# EAGLE library part ESP8285 (library SamacSys_Parts)
Wi-Fi SoC, qfn-32 Source: Datasheet <https://kr.mouser.com/datasheet/2/891/0a-esp8285_datasheet_en-1223891.pdf>
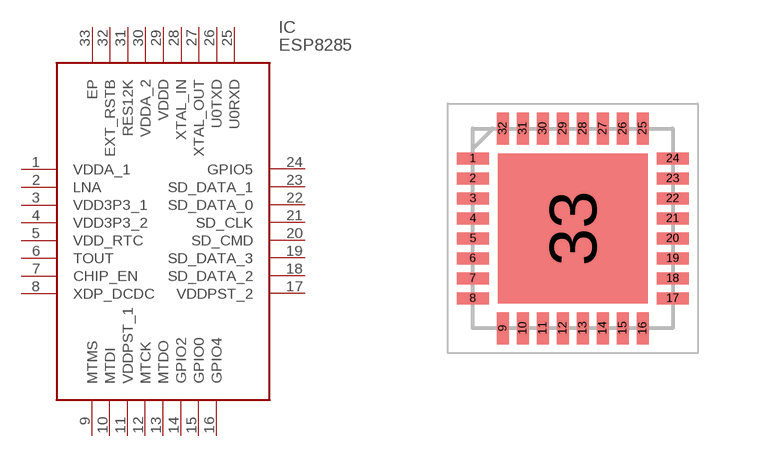
[diagram p2: symbol with the pads of QFN50P500X500X90-33N; footprint QFN50P500X500X90-33N]

Designator prefix IC

## ESP8285 (DESCRIPTION: Wi-Fi SoC, qfn-32; HEIGHT: 0.9mm; MANUFACTURER_NAME: Espressif; MANUFACTURER_PART_NUMBER: ESP8285; MOUSER_PART_NUMBER: 356-ESP8285)  [QFN50P500X500X90-33N]
1  VDDA_1
2  LNA
3  VDD3P3_1
4  VDD3P3_2
5  VDD_RTC
6  TOUT
7  CHIP_EN
8  XDP_DCDC
9  MTMS
10  MTDI
11  VDDPST_1
12  MTCK
13  MTDO
14  GPIO2
15  GPIO0
16  GPIO4
17  VDDPST_2
18  SD_DATA_2
19  SD_DATA_3
20  SD_CMD
21  SD_CLK
22  SD_DATA_0
23  SD_DATA_1
24  GPIO5
25  U0RXD
26  U0TXD
27  XTAL_OUT
28  XTAL_IN
29  VDDD
30  VDDA_2
31  RES12K
32  EXT_RSTB
33  EP

## Footprint QFN50P500X500X90-33N (pad centres in mm)
ESP8285
smd 0.8 x 0.3: 1 -2.5,1.75; 2 -2.5,1.25; 3 -2.5,0.75; 4 -2.5,0.25; 5 -2.5,-0.25; 6 -2.5,-0.75; 7 -2.5,-1.25; 8 -2.5,-1.75; 17 2.5,-1.75; 18 2.5,-1.25; 19 2.5,-0.75; 20 2.5,-0.25; 21 2.5,0.25; 22 2.5,0.75; 23 2.5,1.25; 24 2.5,1.75
smd 0.3 x 0.8: 9 -1.75,-2.5; 10 -1.25,-2.5; 11 -0.75,-2.5; 12 -0.25,-2.5; 13 0.25,-2.5; 14 0.75,-2.5; 15 1.25,-2.5; 16 1.75,-2.5; 25 1.75,2.5; 26 1.25,2.5; 27 0.75,2.5; 28 0.25,2.5; 29 -0.25,2.5; 30 -0.75,2.5; 31 -1.25,2.5; 32 -1.75,2.5
smd 3.75 x 3.75: 33 0,0